# EAGLE library part MM74HC573N (library Fairchild_By_element14_Batch_1)
3-STATE Octal D-Type Latch
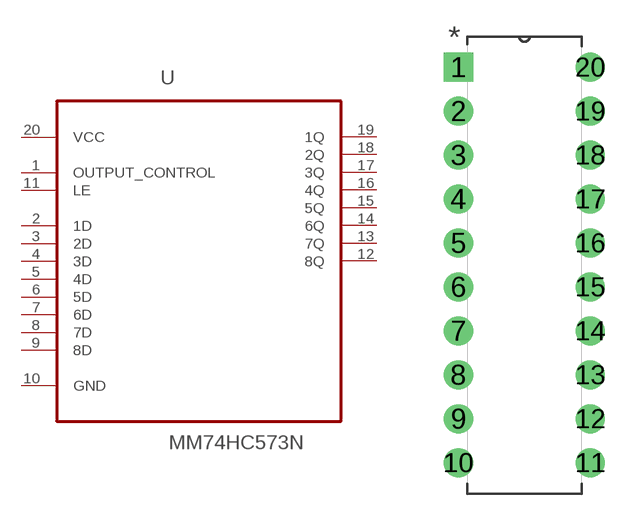
[diagram p296: symbol with the pads of DIP254P762X508-20; footprint DIP254P762X508-20]

Designator prefix U

## MM74HC573N (MPN: MM74HC573N; OC_FARNELL: 1013941; OC_NEWARK: 58K9456; PACKAGE: PDIP-20; SUPPLIER: Fairchild)  [DIP254P762X508-20]
1  OUTPUT_CONTROL  in
2  1D  in
3  2D  in
4  3D  in
5  4D  in
6  5D  in
7  6D  in
8  7D  in
9  8D  in
10  GND  pas
11  LE  in
12  8Q  out
13  7Q  out
14  6Q  out
15  5Q  out
16  4Q  out
17  3Q  out
18  2Q  out
19  1Q  out
20  VCC  pwr

## Footprint DIP254P762X508-20 (pad centres in mm)
drill 1.118 square: 1 -7.62,22.86
drill 1.118: 2 -7.62,20.32; 3 -7.62,17.78; 4 -7.62,15.24; 5 -7.62,12.7; 6 -7.62,10.16; 7 -7.62,7.62; 8 -7.62,5.08; 9 -7.62,2.54; 10 -7.62,0; 11 0,0; 12 0,2.54; 13 0,5.08; 14 0,7.62; 15 0,10.16; 16 0,12.7; 17 0,15.24; 18 0,17.78; 19 0,20.32; 20 0,22.86